# EAGLE library part SN65HVD30 (library texas-instruments.2)
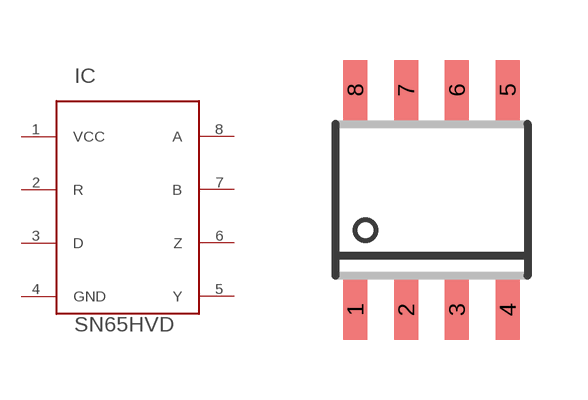
[diagram p8: symbol with the pads of D_R-PDSO-G8; footprint D_R-PDSO-G8]

Designator prefix IC

## SN65HVD30  [D_R-PDSO-G8]
1  VCC
2  R
3  D
4  GND
5  Y
6  Z
7  B
8  A

## Footprint D_R-PDSO-G8 (pad centres in mm)
D (R-PDSO-G8) Source: http://focus.ti.com/lit/ds/slos063b/slos063b.pdf
smd 0.6 x 1.5: 1 -1.905,-2.75; 2 -0.635,-2.75; 3 0.635,-2.75; 4 1.905,-2.75; 5 1.905,2.75; 6 0.635,2.75; 7 -0.635,2.75; 8 -1.905,2.75